# Altium footprint library Devel_Airscout_PCB_LibV3.0.PcbLib: 67 footprints (part 1 of 5)
Each footprint in its own frame and in the unit in brackets; x right, y up, seen from the top. Pads: shape width x height; smd on the part's side, far side on the other; paste and mask are expansions set on the pad; w line width, h text height; cw(c..) or ccw(c..) is an arc to the next point about the centre after c.
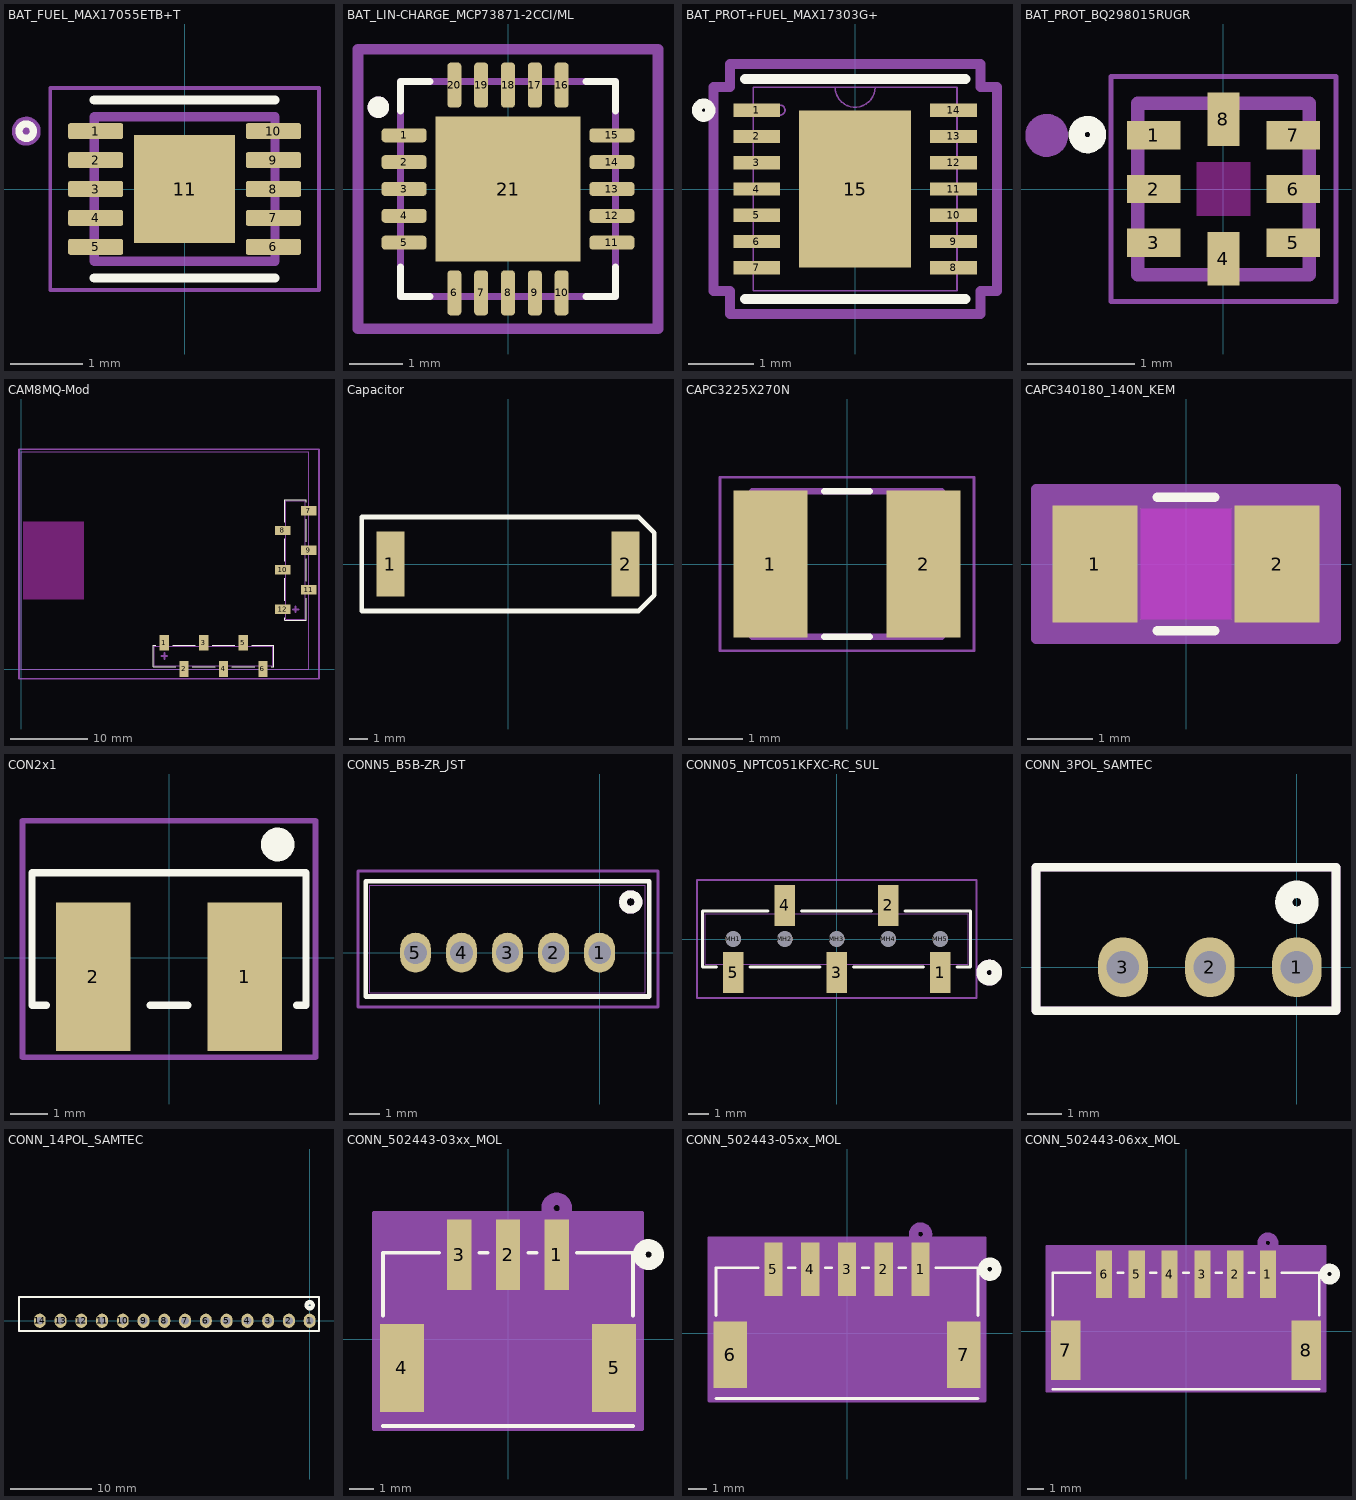
[diagram p0: the footprints below, top view; thin cyan lines are the x and y axes]

## BAT_FUEL_MAX17055ETB+T [mm] "MAX17055ETB+T Footprint; with 3D Model"
pads (11):
  rrect25% 0.76x0.22 smd mask+0.057: 1(-1.23,0.8) 2(-1.23,0.4) 3(-1.23,0) 4(-1.23,-0.4) 5(-1.23,-0.8) 6(1.23,-0.8) 7(1.23,-0.4) 8(1.23,0) 9(1.23,0.4) 10(1.23,0.8)
  rect 1.4x1.5 smd paste-2 mask+0.051: 11(0,0)
Top Overlay:
  circle w0.1: c-2.19,0.8 r0.1
  lines w0.127: -1.25,-1.23 1.25,-1.23 ; -1.25,1.23 1.25,1.23
Top Paste:
  region: 0.44,-0.47 -0.44,-0.47 -0.44,0.47 0.44,0.47
Mechanical 13:
  circle w0.2: c-2.19,0.8 r0.1
  lines w0.127: -1.25,-1 -1.25,1 1.25,1 1.25,-1 -1.25,-1
Mechanical 15:
  lines w0.05: -1.86,-1.397 -1.86,1.397 1.86,1.397 1.86,-1.397 -1.86,-1.397
  text "MAX17055ETB+T" at -1.718,1.498 h0.28
3D body "MAX17055ETB+T.STEP": height 0.8, standoff 0, extent -1.25,-1 1.25,1

## BAT_LIN-CHARGE_MCP73871-2CCI/ML [mm] "Footprint for MCP73871-2CCI/ML"
pads (21):
  rrect50% 0.84x0.26 smd: 1(-1.935,1) 2(-1.935,0.5) 3(-1.935,0) 4(-1.935,-0.5) 5(-1.935,-1) 11(1.935,-1) 12(1.935,-0.5) 13(1.935,0) 14(1.935,0.5) 15(1.935,1)
  rrect50% 0.26x0.84 smd: 6(-1,-1.935) 7(-0.5,-1.935) 8(0,-1.935) 9(0.5,-1.935) 10(1,-1.935) 16(1,1.935) 17(0.5,1.935) 18(0,1.935) 19(-0.5,1.935) 20(-1,1.935)
  rect 2.7x2.7 smd paste-2: 21(0,0)
Top Overlay:
  circle w0.2: c-2.413,1.524 r0.1
  lines w0.127: -2,-1.45 -2,-2 -1.45,-2 ; -2,1.45 -2,2 -1.45,2 ; 1.45,-2 2,-2 2,-1.45 ; 1.45,2 2,2 2,1.45
Top Paste:
  region: 1.09,-1.09 0.13,-1.09 0.13,-0.13 1.09,-0.13
  region: -0.13,-1.09 -1.09,-1.09 -1.09,-0.13 -0.13,-0.13
  region: 1.09,0.13 0.13,0.13 0.13,1.09 1.09,1.09
  region: -0.13,0.13 -1.09,0.13 -1.09,1.09 -0.13,1.09
Mechanical 13:
  circle w0.2: c-2.413,1.524 r0.1
  lines w0.127: -2,-2 2,-2 2,2 -2,2 -2,-2
Mechanical 15:
  lines w0.2: -2.794,-2.605 -2.794,2.605 2.794,2.605 2.794,-2.605 -2.794,-2.605
  text "MCP73871-2CCI/ML" at -2.682,2.894 h0.35
3D body "step_temp.STEP": height 1, standoff 0, extent -2,-2 2,2

## BAT_PROT+FUEL_MAX17303G+ [mil] "14-TDFN (3x3) Case; Footprint for MAX17303G+"
pads (15):
  rect 28x8 smd paste+0 mask+0: 1(-59,47.24) 2(-59,31.5) 3(-59,15.75) 4(-59,0) 5(-59,-15.75) 6(-59,-31.5) 7(-59,-47.24) 8(59,-47.24) 9(59,-31.5) 10(59,-15.75) 11(59,0) 12(59,15.75) 13(59,31.5) 14(59,47.24)
  rect 67x94 smd paste+0 mask+0: 15(0,0)
Top Overlay:
  circle w6: c-90.75,47.24 r4
  lines w6: -66,-66 66,-66 ; -66,66 66,66
Mechanical 13:
  circle w1: c-45,47.24 r3
  lines w1: -12,61 ccw(c0,61) 12,61 ; -61,-61 61,-61 61,61 -61,61 -61,-61
Mechanical 15:
  lines w6: -85,-61.24 -85,61.24 -75,61.24 -75,75 75,75 75,61.24 85,61.24 85,-61.24 75,-61.24 75,-75 -75,-75 -75,-61.24 -85,-61.24
  text "MAX17303G+" at -74.78,81.97 h15.75
3D body "21-0137I_T1433-2_MXM.step": height 32.09, standoff 0, extent -60.98,-60.98 60.98,60.98

## BAT_PROT_BQ298015RUGR [mm] "BQ298015RUGR Footprint; with 3D-Model"
height 0.5
pads (8):
  rect 0.5x0.265 smd mask+0.025: 1(-0.65,0.5) 2(-0.65,0) 3(-0.65,-0.5) 5(0.65,-0.5) 6(0.65,0) 7(0.65,0.5)
  rect 0.3x0.5 smd mask+0.025: 4(0,-0.65) 8(0,0.65)
Top Overlay:
  circle w0.15: c-1.27,0.508 r0.1
Top Paste:
  region: -0.4,0.39 -0.8,0.39 -0.8,0.61 -0.4,0.61
Keep-Out Layer:
  region: 0.25,-0.25 -0.25,-0.25 -0.25,0.25 0.25,0.25
Mechanical 13:
  circle w0.2: c-1.65,0.5 r0.1
  lines w0.127: -0.8,-0.8 0.8,-0.8 0.8,0.8 -0.8,0.8 -0.8,-0.8
Mechanical 15:
  lines w0.05: -1.05,-1.05 -1.05,1.05 1.05,1.05 1.05,-1.05 -1.05,-1.05
  text "BQ298015RUGR" at -1.006,1.193 h0.18
3D body "RUG0008B.stp": height 0.4, standoff 0, extent -0.75,-0.75 0.75,0.75

## CAM8MQ-Mod [mm] "For SMD Soldering"
pads (12):
  rect 1.2x2 smd paste+0 mask+0.025: 1(18.4,3.376) 2(20.94,0.024) 3(23.48,3.376) 4(26.02,0.024) 5(28.56,3.376) 6(31.1,0.024)
  rect 2x1.2 smd paste+0 mask+0.025: 7(36.976,20.4) 8(33.624,17.86) 9(36.976,15.32) 10(33.624,12.78) 11(36.976,10.24) 12(33.624,7.7)
Top Layer keep-out:
  region: 0.25,19 8,19 8,9 0.25,9
Top Overlay:
  lines w0.152: 17.318,3.072 17.003,3.072 17.003,0.303 19.858,0.303 ; 19.482,3.072 22.398,3.072 ; 22.022,0.303 24.938,0.303 ; 24.562,3.072 27.478,3.072 ; 27.102,0.303 30.018,0.303 ; 29.642,3.072 32.497,3.072 32.497,0.303 32.182,0.303 ; 33.928,6.618 33.928,6.303 36.697,6.303 36.697,9.158 ; 33.928,8.782 33.928,11.698 ; 33.928,13.862 33.928,16.778 ; 33.928,18.942 33.928,21.797 36.697,21.797 36.697,21.482 ; 36.697,11.322 36.697,14.238 ; 36.697,16.402 36.697,19.318
Mechanical 3:
  text "GPS-Module" at 12.154,14.254 h1.52
Mechanical 7:
  lines w0.254: 18.035,1.7 18.765,1.7 ; 18.4,1.335 18.4,2.065 ; 34.935,7.7 35.665,7.7 ; 35.3,7.335 35.3,8.065
Mechanical 13:
  lines w0.025: 17.13,0.43 17.13,2.945 32.37,2.945 32.37,0.43 17.13,0.43 ; 34.055,6.43 34.055,21.67 36.57,21.67 36.57,6.43 34.055,6.43
  lines w0.1: 32.004,0 37,0 37,21.8 ; 33.3,0 0,0 0,28 37,28 37,21.5
Mechanical 15:
  lines w0.2: -0.303,-1.227 38.311,-1.227 38.311,28.303 -0.303,28.303 -0.303,-1.227
3D body "NPPC061KFXC-RC--3DModel-STEP-740413.STEP": height 7.49, standoff 0, extent 33.287,6.35 37.579,21.59
3D body "NPPC061KFXC-RC--3DModel-STEP-740413.STEP": height 7.49, standoff 0, extent 17.145,-0.495 32.385,3.797

## Capacitor [mm]
pads (2):
  rect 1.5x3.5 smd: 1(-6.35,0) 2(6.35,0)
Top Overlay:
  lines w0.254: -7.89,-2.54 -7.89,0 -7.89,2.54 7.043,2.54 7.89,1.693 7.89,-1.693 7.043,-2.54 -7.89,-2.54

## CAPC3225X270N [mm] "CAP 1210 Imperial"
pads (2):
  rect 1.37x2.72 smd: 1(-1.421,0) 2(1.421,0)
Top Overlay:
  lines w0.127: -0.42,-1.35 0.42,-1.35 ; -0.42,1.35 0.42,1.35
Mechanical 13:
  lines w0.127: -1.75,-1.35 -1.75,1.35 1.75,1.35 1.75,-1.35 -1.75,-1.35
Mechanical 15:
  lines w0.05: -2.355,-1.608 -2.355,1.608 2.355,1.608 2.355,-1.608 -2.355,-1.608
3D body "step_temp.STEP": height 2.7, standoff 0, extent -1.6,-1.25 1.6,1.25

## CAPC340180_140N_KEM [mm] "Caseform: 1206 Imperial; for Caps"
pads (2):
  rect 1.306x1.8 smd paste+0 mask+0: 1(-1.403,0) 2(1.403,0)
Top Layer keep-out:
  region: -0.699,-0.849 -0.699,0.849 0.699,0.849 0.699,-0.849
Top Overlay:
  lines w0.152: -0.442,-1.027 0.442,-1.027 ; -0.442,1.027 0.442,1.027
Mechanical 13:
  lines w0.025: -1.7,-0.9 -1.7,0.9 ; -1.7,-0.9 1.7,-0.9 ; -1.7,-0.9 -0.95,-0.9 -0.95,0.9 -1.7,0.9 ; -1.7,-0.9 -1.7,0.9 ; -1.7,0.9 1.7,0.9 ; 1.7,-0.9 1.7,0.9 ; 1.7,-0.9 1.7,0.9 ; 1.7,-0.9 0.95,-0.9 0.95,0.9 1.7,0.9
Mechanical 15:
  region: 2.31,-1.154 -2.31,-1.154 -2.31,1.154 2.31,1.154
  lines w0.152: -2.31,-1.154 2.31,-1.154 2.31,1.154 -2.31,1.154 -2.31,-1.154
3D body "CAPC340180_140N_KEM.step": height 1.4, standoff 0, extent -1.7,-0.9 1.7,0.9

## CON2x1 [mm]
pads (2):
  rect 2x4 smd paste-1.803 mask-1.803: 1(2.032,-0.508) 2(-2.032,-0.508)
Top Overlay:
  circle w0.508: c2.921,3.048 r0.2
  lines w0.2: -3.302,-1.27 -3.683,-1.27 -3.683,2.286 3.683,2.286 3.683,-1.27 3.429,-1.27 ; -0.508,-1.27 0.508,-1.27
Mechanical 15:
  lines w0.152: -3.937,-2.667 -3.937,3.683 3.937,3.683 3.937,-2.667 -3.937,-2.667

## CONN5_B5B-ZR_JST [mm]
pads (5):
  oval 1x1.3 hole 0.737 paste-2539.97: 1(0,0) 2(-1.5,0) 3(-3,0) 4(-4.5,0) 5(-6,0)
Top Overlay:
  circle w0.254: c1.016,1.651 r0.254
  lines w0.152: -7.623,-1.432 -7.623,2.327 1.623,2.327 1.623,-1.432 -7.623,-1.432
Bottom Overlay:
  circle w0.254: c1.016,1.651 r0.254
Mechanical 13:
  circle w0.254: c1.016,1.651 r0.254
  lines w0.025: -7.496,-1.305 -7.496,2.2 1.496,2.2 1.496,-1.305 -7.496,-1.305
Mechanical 15:
  lines w0.1: -7.874,-1.778 1.905,-1.778 1.905,2.667 -7.874,2.667 -7.874,-1.778
3D body "B5B-ZR.STEP": height 4.5, standoff -2.7, extent -7.5,-1.242 1.5,2.258

## CONN05_NPTC051KFXC-RC_SUL [mm]
pads (10):
  rect 1x2 smd paste+0 mask+0.025: 1(5.08,-1.65) 2(2.54,1.65) 3(0,-1.65) 4(-2.54,1.65) 5(-5.08,-1.65)
  round 0.762 hole 0.762: MH1(-5.08,0) MH2(-2.54,0) MH3(0,0) MH4(2.54,0) MH5(5.08,0)
Top Overlay:
  circle w0.508: c7.493,-1.651 r0.381
  lines w0.152: -5.908,-1.372 -6.579,-1.372 -6.579,1.372 -3.368,1.372 ; -4.252,-1.372 -0.828,-1.372 ; -1.712,1.372 1.712,1.372 ; 0.828,-1.372 4.252,-1.372 ; 3.368,1.372 6.579,1.372 6.579,-1.372 5.908,-1.372
Bottom Overlay:
  circle w0.508: c7.493,-1.651 r0.381
Mechanical 13:
  circle w0.508: c7.493,-1.651 r0.381
  lines w0.025: -6.452,-1.245 -6.452,1.245 6.452,1.245 6.452,-1.245 -6.452,-1.245
Mechanical 15:
  lines w0.1: -6.858,-2.907 6.858,-2.907 6.858,2.907 -6.858,2.907 -6.858,-2.907
3D body "NPTC051KFXC-RC.STEP": height 7.49, standoff 0, extent -6.35,-2.273 6.35,2.019

## CONN_3POL_SAMTEC [mm] "0705430013"
pads (3):
  oval 1.45x1.75 hole 0.95: 1(0,0) 2(-2.54,0) 3(-5.08,0)
Top Overlay:
  lines w0.254: -7.62,-1.27 1.143,-1.27 1.143,2.921 -7.62,2.921 -7.62,-1.27
  lines w0.508: -0.381,1.9 cw(c0,1.9) 0.381,1.9 cw(c0,1.9) -0.381,1.9
Mechanical 13:
  lines w0.254: -7.62,-1.27 1.143,-1.27 1.143,2.921 -7.62,2.921 -7.62,-1.27
3D body "IDMS-03-S-02.50.stp": height 5.46, standoff -3.68, extent -7.226,-1.27 0.876,5.08

## CONN_14POL_SAMTEC [mm] "0705430013"
pads (14):
  oval 1.45x1.75 hole 0.95: 1(0,0) 2(-2.54,0) 3(-5.08,0) 4(-7.62,0) 5(-10.16,0) 6(-12.7,0) 7(-15.24,0) 8(-17.78,0) 9(-20.32,0) 10(-22.86,0) 11(-25.4,0) 12(-27.94,0) 13(-30.48,0) 14(-33.02,0)
Top Overlay:
  lines w0.254: -35.56,-1.27 1.143,-1.27 1.143,2.921 -35.56,2.921 -35.56,-1.27
  lines w0.508: -0.381,1.9 cw(c0,1.9) 0.381,1.9 cw(c0,1.9) -0.381,1.9
Mechanical 13:
  lines w0.254: -35.56,-1.27 -35.56,2.921 1.143,2.921 1.143,-1.27 -35.56,-1.27
3D body "IDMS-14-S-02.50.stp": height 5.97, standoff -3.17, extent -35.293,-1.27 0.749,5.08

## CONN_502443-03xx_MOL [mil]
pads (5):
  rect 39x114 smd paste+0 mask+0: 1(78.74,136.97) 2(0,136.97) 3(-78.74,136.97)
  rect 71x142 smd paste-71 mask-71: 4(-171.26,-46.1) 5(171.26,-46.1)
Top Overlay:
  circle w20: c227,136.97 r15
  lines w6: -202,-140 202,-140 ; -202,38 -202,140 -111.34,140 ; -46.14,140 -32.6,140 ; 32.6,140 46.14,140 ; 111.34,140 202,140 202,38
Bottom Overlay:
  circle w20: c227,136.97 r15
Mechanical 13:
  circle w20: c78.74,211.97 r15
  lines w1: -197,-135 197,-135 197,135 -197,135 -197,-135
Mechanical 15:
  region: 216.76,203.97 -216.76,203.97 -216.76,-145 216.76,-145
  lines w6: -216.76,-145 -216.76,203.97 216.76,203.97 216.76,-145 -216.76,-145
3D body "5024430370.stp": height 296.1, standoff 0.83, extent -196.85,-134.92 196.85,168.23

## CONN_502443-05xx_MOL [mil]
pads (7):
  rect 39x114 smd paste+0 mask+0: 1(157.48,136.97) 2(78.74,136.97) 3(0,136.97) 4(-78.74,136.97) 5(-157.48,136.97)
  rect 71x142 smd paste-71 mask-71: 6(-250,-46.1) 7(250,-46.1)
Top Overlay:
  circle w20: c305.5,136.97 r15
  lines w6: -280.5,-140 280.5,-140 ; -280.5,38 -280.5,140 -190.08,140 ; -124.88,140 -111.34,140 ; -46.14,140 -32.6,140 ; 32.6,140 46.14,140 ; 111.34,140 124.88,140 ; 190.08,140 280.5,140 280.5,38
Bottom Overlay:
  circle w20: c305.5,136.97 r15
Mechanical 13:
  circle w20: c157.48,211.97 r15
  lines w1: -275.5,-135 -275.5,135 275.5,135 275.5,-135 -275.5,-135
Mechanical 15:
  region: 295.5,203.97 -295.5,203.97 -295.5,-145 295.5,-145
  lines w6: -295.5,-145 295.5,-145 295.5,203.97 -295.5,203.97 -295.5,-145
3D body "5024430570.stp": height 296.1, standoff 0.83, extent -275.59,-130 275.59,173.15

## CONN_502443-06xx_MOL [mil]
pads (8):
  rect 39x114 smd paste+0 mask+0: 1(196.85,136.97) 2(118.11,136.97) 3(39.37,136.97) 4(-39.37,136.97) 5(-118.11,136.97) 6(-196.85,136.97)
  rect 71x142 smd paste-71 mask-71: 7(-289.37,-46.1) 8(289.37,-46.1)
Top Overlay:
  circle w20: c345,136.97 r15
  lines w6: -320,-140 320,-140 ; -320,38 -320,140 -229.45,140 ; -164.25,140 -150.71,140 ; -85.51,140 -71.97,140 ; -6.77,140 6.77,140 ; 71.97,140 85.51,140 ; 150.71,140 164.25,140 ; 229.45,140 320,140 320,38
Bottom Overlay:
  circle w20: c345,136.97 r15
Mechanical 13:
  circle w20: c196.85,211.97 r15
  lines w1: -315,-135 -315,135 315,135 315,-135 -315,-135
Mechanical 15:
  region: 334.87,203.97 -334.87,203.97 -334.87,-145 334.87,-145
  lines w6: -334.87,-145 334.87,-145 334.87,203.97 -334.87,203.97 -334.87,-145
3D body "5024430670.stp": height 296.1, standoff 0.83, extent -314.96,-130 314.96,173.15